# Altium footprint library Ind0805.PcbLib: 1 footprints
Each footprint in its own frame and in the unit in brackets; x right, y up, seen from the top. Pads: shape width x height; smd on the part's side, far side on the other; paste and mask are expansions set on the pad; w line width, h text height; cw(c..) or ccw(c..) is an arc to the next point about the centre after c.
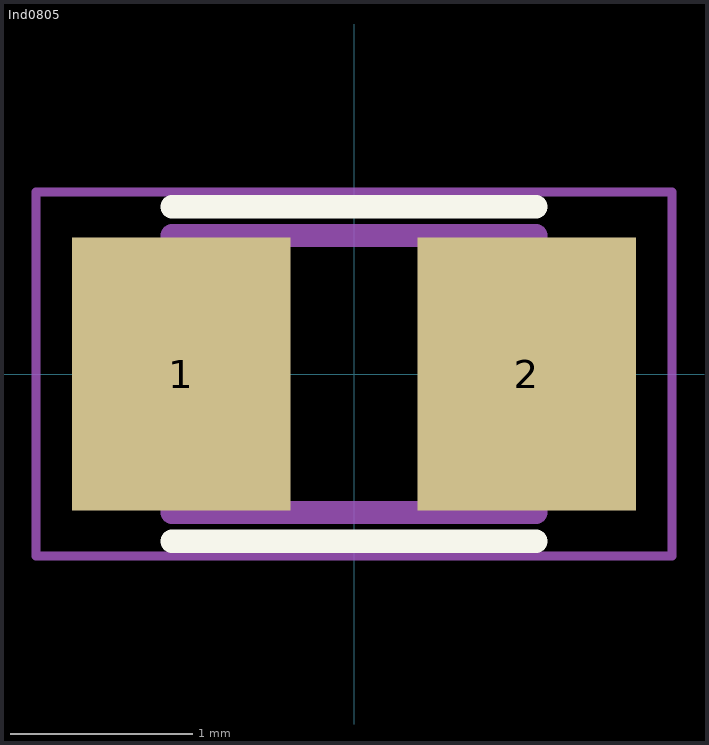
[diagram p0: the footprint, top view; thin cyan lines are the x and y axes]

## Ind0805 [mm]
pads (2):
  rect 1.2x1.5 smd: 1(-0.95,0) 2(0.95,0)
Top Overlay:
  lines w0.127: -1,-0.92 1,-0.92 ; -1,0.92 1,0.92
Mechanical 13:
  lines w0.127: -1,-0.762 -1,0.762 1,0.762 1,-0.762 -1,-0.762
Mechanical 15:
  lines w0.05: -1.75,-1 -1.75,1 1.75,1 1.75,-1 -1.75,-1
3D body "LQW2BHN18NJ03L.STEP": height 1.78, standoff 0, extent -1,-0.738 1,0.762